# Altium footprint library con-wago255.PCBLIB: 101 footprints (part 6 of 7)
Each footprint in its own frame and in the unit in brackets; x right, y up, seen from the top. Pads: shape width x height; smd on the part's side, far side on the other; paste and mask are expansions set on the pad; w line width, h text height; cw(c..) or ccw(c..) is an arc to the next point about the centre after c.
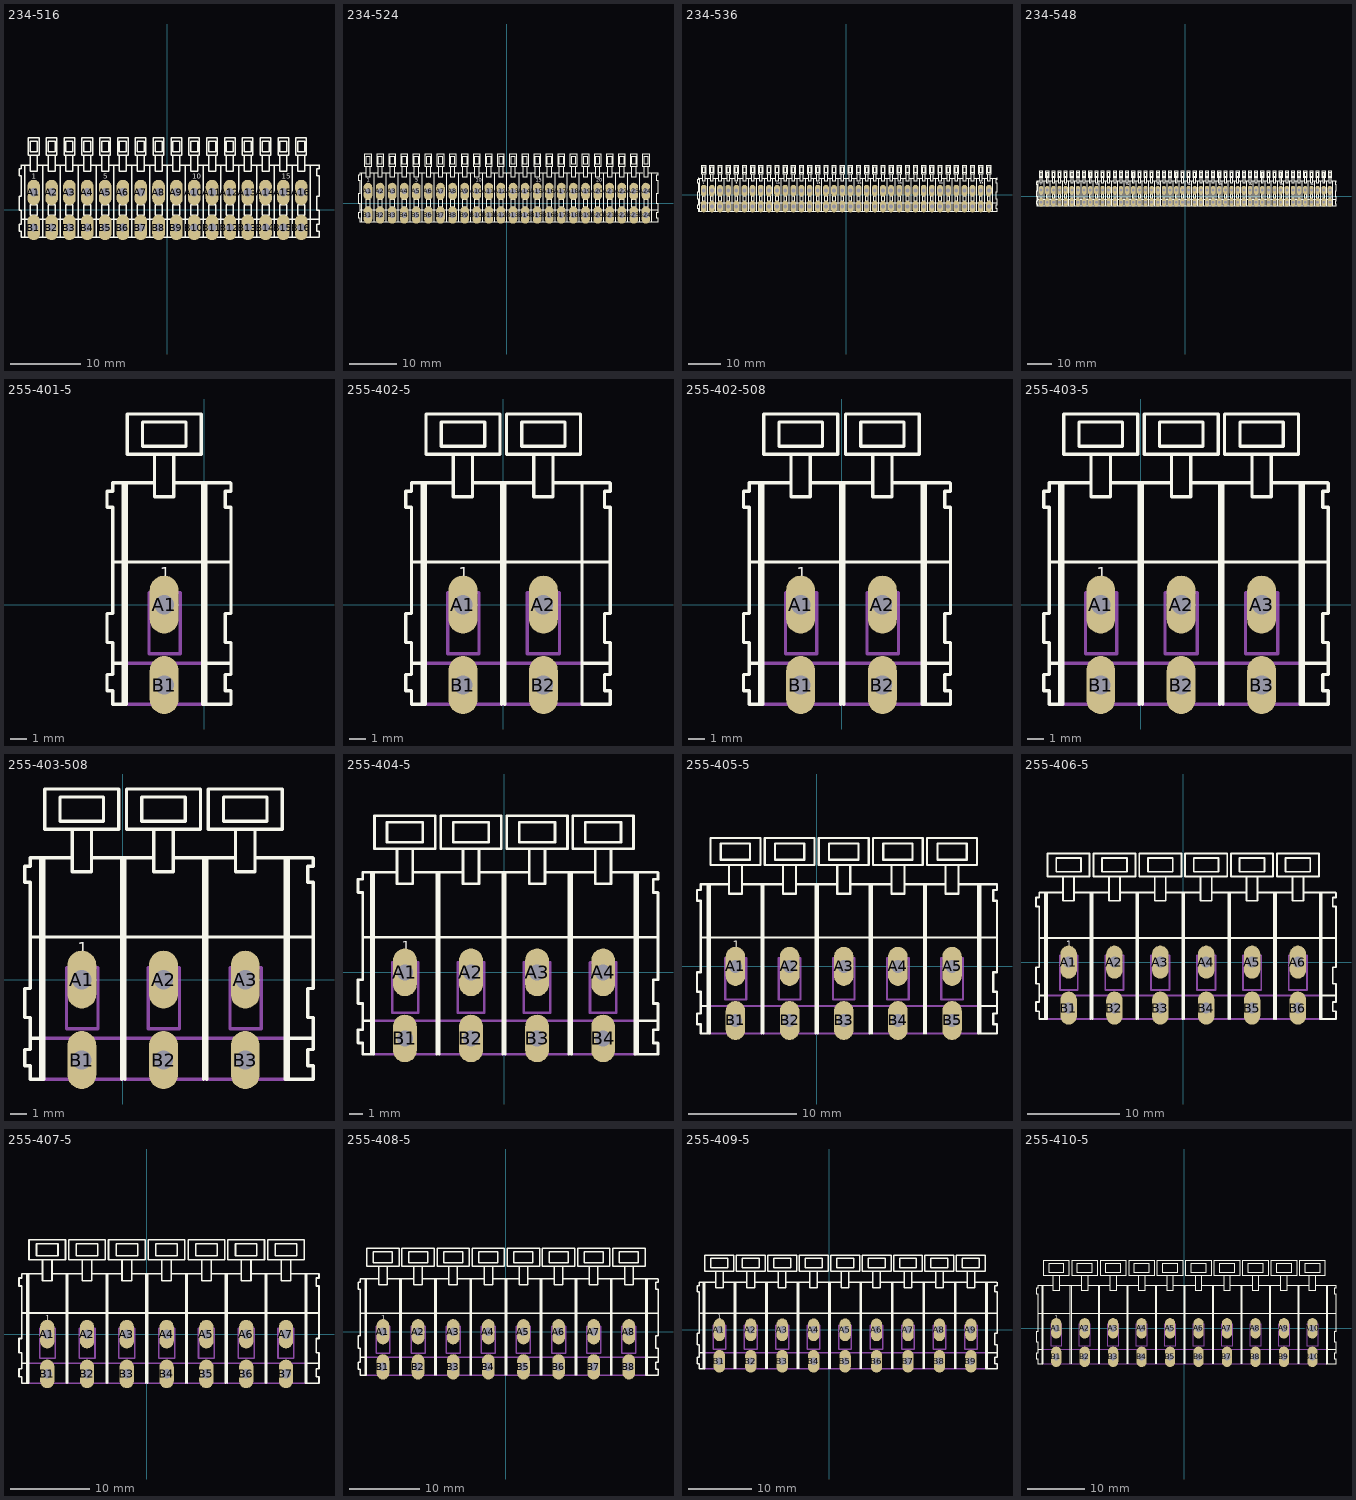
[diagram p5: the footprints below, top view; thin cyan lines are the x and y axes]

## 234-516 [mil]
pads (32):
  oval 70.86x141.72 hole 47.24: A1(-750,98.43) A2(-650,98.43) A3(-550,98.43) A4(-450,98.43) A5(-350,98.43) A6(-250,98.43) A7(-150,98.43) A8(-50,98.43) A9(50,98.43) A10(150,98.43) A11(250,98.43) A12(350,98.43) A13(450,98.43) A14(550,98.43) A15(650,98.43) A16(750,98.43) B1(-750,-98.43) B2(-650,-98.43) B3(-550,-98.43) B4(-450,-98.43) B5(-350,-98.43) B6(-250,-98.43) B7(-150,-98.43) B8(-50,-98.43) B9(50,-98.43) B10(150,-98.43) B11(250,-98.43) B12(350,-98.43) B13(450,-98.43) B14(550,-98.43) B15(650,-98.43) B16(750,-98.43)
Top Overlay:
  drawing of 337 lines, arcs and shapes, not listed
  text "1" at -759.84,164.17 h49.6
  text "5" at -359.84,164.17 h49.6
  text "10" at 140.16,164.17 h49.6
  text "15" at 640.16,164.17 h49.6

## 234-524 [mil]
pads (48):
  oval 70.86x141.72 hole 47.24: A1(-1150,98.43) A2(-1050,98.43) A3(-950,98.43) A4(-850,98.43) A5(-750,98.43) A6(-650,98.43) A7(-550,98.43) A8(-450,98.43) A9(-350,98.43) A10(-250,98.43) A11(-150,98.43) A12(-50,98.43) A13(50,98.43) A14(150,98.43) A15(250,98.43) A16(350,98.43) A17(450,98.43) A18(550,98.43) A19(650,98.43) A20(750,98.43) A21(850,98.43) A22(950,98.43) A23(1050,98.43) A24(1150,98.43) B1(-1150,-98.43) B2(-1050,-98.43) B3(-950,-98.43) B4(-850,-98.43) B5(-750,-98.43) B6(-650,-98.43) B7(-550,-98.43) B8(-450,-98.43) B9(-350,-98.43) B10(-250,-98.43) B11(-150,-98.43) B12(-50,-98.43) B13(50,-98.43) B14(150,-98.43) B15(250,-98.43) B16(350,-98.43) B17(450,-98.43) B18(550,-98.43) B19(650,-98.43) B20(750,-98.43) B21(850,-98.43) B22(950,-98.43) B23(1050,-98.43) B24(1150,-98.43)
Top Overlay:
  drawing of 489 lines, arcs and shapes, not listed
  text "1" at -1159.84,164.17 h49.6
  text "5" at -759.84,164.17 h49.6
  text "10" at -259.84,164.17 h49.6
  text "15" at 240.16,164.17 h49.6
  text "20" at 740.16,164.17 h49.6

## 234-536 [mil]
pads (72):
  oval 70.86x141.72 hole 47.24: A1(-1750,48.43) A2(-1650,48.43) A3(-1550,48.43) A4(-1450,48.43) A5(-1350,48.43) A6(-1250,48.43) A7(-1150,48.43) A8(-1050,48.43) A9(-950,48.43) A10(-850,48.43) A11(-750,48.43) A12(-650,48.43) A13(-550,48.43) A14(-450,48.43) A15(-350,48.43) A16(-250,48.43) A17(-150,48.43) A18(-50,48.43) A19(50,48.43) A20(150,48.43) A21(250,48.43) A22(350,48.43) A23(450,48.43) A24(550,48.43) A25(650,48.43) A26(750,48.43) A27(850,48.43) A28(950,48.43) A29(1050,48.43) A30(1150,48.43) A31(1250,48.43) A32(1350,48.43) A33(1450,48.43) A34(1550,48.43) A35(1650,48.43) A36(1750,48.43) B1(-1750,-148.43) B2(-1650,-148.43) B3(-1550,-148.43) B4(-1450,-148.43) B5(-1350,-148.43) B6(-1250,-148.43) B7(-1150,-148.43) B8(-1050,-148.43) B9(-950,-148.43) B10(-850,-148.43) B11(-750,-148.43) B12(-650,-148.43) B13(-550,-148.43) B14(-450,-148.43) B15(-350,-148.43) B16(-250,-148.43) B17(-150,-148.43) B18(-50,-148.43) B19(50,-148.43) B20(150,-148.43) B21(250,-148.43) B22(350,-148.43) B23(450,-148.43) B24(550,-148.43) B25(650,-148.43) B26(750,-148.43) B27(850,-148.43) B28(950,-148.43) B29(1050,-148.43) B30(1150,-148.43) B31(1250,-148.43) B32(1350,-148.43) B33(1450,-148.43) B34(1550,-148.43) B35(1650,-148.43) B36(1750,-148.43)
Top Overlay:
  drawing of 717 lines, arcs and shapes, not listed
  text "1" at -1759.84,114.17 h49.6
  text "5" at -1359.84,114.17 h49.6
  text "10" at -859.84,114.17 h49.6
  text "15" at -359.84,114.17 h49.6
  text "20" at 140.16,114.17 h49.6
  text "25" at 640.16,114.17 h49.6
  text "30" at 1140.16,114.17 h49.6
  text "35" at 1640.16,114.17 h49.6

## 234-548 [mil]
pads (96):
  oval 70.86x141.72 hole 47.24: A1(-2350,98.43) A2(-2250,98.43) A3(-2150,98.43) A4(-2050,98.43) A5(-1950,98.43) A6(-1850,98.43) A7(-1750,98.43) A8(-1650,98.43) A9(-1550,98.43) A10(-1450,98.43) A11(-1350,98.43) A12(-1250,98.43) A13(-1150,98.43) A14(-1050,98.43) A15(-950,98.43) A16(-850,98.43) A17(-750,98.43) A18(-650,98.43) A19(-550,98.43) A20(-450,98.43) A21(-350,98.43) A22(-250,98.43) A23(-150,98.43) A24(-50,98.43) A25(50,98.43) A26(150,98.43) A27(250,98.43) A28(350,98.43) A29(450,98.43) A30(550,98.43) A31(650,98.43) A32(750,98.43) A33(850,98.43) A34(950,98.43) A35(1050,98.43) A36(1150,98.43) A37(1250,98.43) A38(1350,98.43) A39(1450,98.43) A40(1550,98.43) A41(1650,98.43) A42(1750,98.43) A43(1850,98.43) A44(1950,98.43) A45(2050,98.43) A46(2150,98.43) A47(2250,98.43) A48(2350,98.43) B1(-2350,-98.43) B2(-2250,-98.43) B3(-2150,-98.43) B4(-2050,-98.43) B5(-1950,-98.43) B6(-1850,-98.43) B7(-1750,-98.43) B8(-1650,-98.43) B9(-1550,-98.43) B10(-1450,-98.43) B11(-1350,-98.43) B12(-1250,-98.43) B13(-1150,-98.43) B14(-1050,-98.43) B15(-950,-98.43) B16(-850,-98.43) B17(-750,-98.43) B18(-650,-98.43) B19(-550,-98.43) B20(-450,-98.43) B21(-350,-98.43) B22(-250,-98.43) B23(-150,-98.43) B24(-50,-98.43) B25(50,-98.43) B26(150,-98.43) B27(250,-98.43) B28(350,-98.43) B29(450,-98.43) B30(550,-98.43) B31(650,-98.43) B32(750,-98.43) B33(850,-98.43) B34(950,-98.43) B35(1050,-98.43) B36(1150,-98.43) B37(1250,-98.43) B38(1350,-98.43) B39(1450,-98.43) B40(1550,-98.43) B41(1650,-98.43) B42(1750,-98.43) B43(1850,-98.43) B44(1950,-98.43) B45(2050,-98.43) B46(2150,-98.43) B47(2250,-98.43) B48(2350,-98.43)
Top Overlay:
  drawing of 945 lines, arcs and shapes, not listed
  text "1" at -2359.84,164.17 h49.6
  text "5" at -1959.84,164.17 h49.6
  text "10" at -1459.84,164.17 h49.6
  text "15" at -959.84,164.17 h49.6
  text "20" at -459.84,164.17 h49.6
  text "25" at 40.16,164.17 h49.6
  text "30" at 540.16,164.17 h49.6
  text "35" at 1040.16,164.17 h49.6
  text "40" at 1540.16,164.17 h49.6
  text "45" at 2040.16,164.17 h49.6

## 255-401-5 [mm]
pads (2):
  oval 1.8x3.6 hole 1.2: A1(-2.5,0) B1(-2.5,-5)
Top Overlay:
  lines w0.203: -5.7,-3.65 -5,-3.65 ; -5.65,2.65 -0.1,2.65 ; -5.05,7.55 -5.05,-6.2 ; -4.85,7.55 -4.85,-6.2 -5.05,-6.2 ; -3.125,7.575 -5.7,7.575 -5.7,7.05 -6.05,7.05 -6.05,6.05 -5.7,6.05 -5.7,-0.55 -6.05,-0.55 -6.05,-2.35 -5.7,-2.35 -5.7,-4.35 -6.05,-4.35 -6.05,-5.35 -5.7,-5.35 -5.7,-6.2 -5.05,-6.2 ; -1.875,7.575 1.625,7.575 ; -0.1,7.55 -0.1,2.65 ; -0.05,-3.65 1.65,-3.65 ; 0.1,-6.2 0.1,7.55 ; 1.6,2.65 -0.1,2.65 ; 1.65,7.55 1.65,7.05 1.3,7.05 1.3,6.05 1.65,6.05 1.65,-0.55 1.3,-0.55 1.3,-2.35 1.65,-2.35 1.65,-3.65 ; -3.1,9.35 -4.8,9.35 -4.8,11.85 -0.2,11.85 -0.2,9.35 -1.9,9.35 ; -3.1,9.35 -1.9,9.35 ; -3.1,9.35 -3.1,6.7 -1.9,6.7 -1.9,9.35 ; -0.1,2.65 -0.1,-6.2 1.65,-6.2 1.65,-5.35 1.3,-5.35 1.3,-4.35 1.65,-4.35 1.65,-3.65 ; -3.85,9.85 -3.85,11.35 -1.15,11.35 -1.15,9.85 -3.85,9.85
  text "1" at -2.75,1.35 h1.26
Mechanical 16:
  lines w0.203: -5,-3.65 -0.1,-3.65 ; -4.85,-6.2 -0.1,-6.2 ; -3.45,-3.05 -3.45,0.75 -1.5,0.75 -1.5,-3.05 -3.45,-3.05

## 255-402-5 [mm]
pads (4):
  oval 1.8x3.6 hole 1.2: A1(-2.5,0) A2(2.5,0) B1(-2.5,-5) B2(2.5,-5)
Top Overlay:
  lines w0.203: -5.7,-3.65 -5,-3.65 ; -5.65,2.65 -0.1,2.65 ; -5.05,7.55 -5.05,-6.2 ; -4.85,7.55 -4.85,-6.2 -5.05,-6.2 ; -3.125,7.575 -5.7,7.575 -5.7,7.05 -6.05,7.05 -6.05,6.05 -5.7,6.05 -5.7,-0.55 -6.05,-0.55 -6.05,-2.35 -5.7,-2.35 -5.7,-4.35 -6.05,-4.35 -6.05,-5.35 -5.7,-5.35 -5.7,-6.2 -5.05,-6.2 ; -1.825,7.575 1.875,7.575 ; -0.1,-6.2 -0.1,2.65 ; -0.1,7.55 -0.1,2.65 ; 0.1,-6.2 0.1,2.65 ; 0.1,7.55 0.1,2.65 ; 3.125,7.575 6.625,7.575 ; 4.9,7.55 4.9,2.65 ; 4.95,-3.65 6.65,-3.65 ; 6.6,2.65 4.9,2.65 ; 6.65,7.55 6.65,7.05 6.3,7.05 6.3,6.05 6.65,6.05 6.65,-0.55 6.3,-0.55 6.3,-2.35 6.65,-2.35 6.65,-3.65 ; -3.1,9.35 -4.8,9.35 -4.8,11.85 -0.2,11.85 -0.2,9.35 -1.9,9.35 ; -3.1,9.35 -1.9,9.35 ; -3.1,9.35 -3.1,6.7 -1.9,6.7 -1.9,9.35 ; 0.1,2.65 4.9,2.65 ; 1.9,9.35 0.2,9.35 0.2,11.85 4.8,11.85 4.8,9.35 3.1,9.35 ; 1.9,9.35 3.1,9.35 ; 1.9,9.35 1.9,6.7 3.1,6.7 3.1,9.35 ; 4.9,2.65 4.9,-6.2 6.65,-6.2 6.65,-5.35 6.3,-5.35 6.3,-4.35 6.65,-4.35 6.65,-3.65 ; -3.85,9.85 -3.85,11.35 -1.15,11.35 -1.15,9.85 -3.85,9.85 ; 1.15,9.85 1.15,11.35 3.85,11.35 3.85,9.85 1.15,9.85
  text "1" at -2.75,1.35 h1.26
Mechanical 16:
  lines w0.203: -5,-3.65 4.9,-3.65 ; -4.85,-6.2 4.9,-6.2 ; -3.45,-3.05 -3.45,0.75 -1.5,0.75 -1.5,-3.05 -3.45,-3.05 ; 1.5,-3.05 1.5,0.75 3.5,0.75 3.5,-3.05 1.5,-3.05

## 255-402-508 [mm]
pads (4):
  oval 1.8x3.6 hole 1.2: A1(-2.54,0) A2(2.54,0) B1(-2.54,-5) B2(2.54,-5)
Top Overlay:
  lines w0.203: -5.74,-3.65 -5.04,-3.65 ; -5.69,2.65 -0.06,2.65 ; -5.09,7.55 -5.09,-6.2 ; -4.89,7.55 -4.89,-6.2 -5.09,-6.2 ; -3.165,7.575 -5.74,7.575 -5.74,7.05 -6.09,7.05 -6.09,6.05 -5.74,6.05 -5.74,-0.55 -6.09,-0.55 -6.09,-2.35 -5.74,-2.35 -5.74,-4.35 -6.09,-4.35 -6.09,-5.35 -5.74,-5.35 -5.74,-6.2 -5.09,-6.2 ; -1.915,7.575 1.919,7.575 ; -0.06,-6.2 -0.06,2.65 ; -0.06,7.55 -0.06,2.65 ; 0.14,-6.2 0.14,7.55 ; 3.165,7.575 6.745,7.575 ; 5.02,7.55 5.02,2.65 ; 5.07,-3.65 6.77,-3.65 ; 5.22,-6.2 5.22,7.55 ; 6.72,2.65 5.02,2.65 ; 6.77,7.55 6.77,7.05 6.42,7.05 6.42,6.05 6.77,6.05 6.77,-0.55 6.42,-0.55 6.42,-2.35 6.77,-2.35 6.77,-3.65 ; -3.14,9.35 -4.84,9.35 -4.84,11.85 -0.24,11.85 -0.24,9.35 -1.94,9.35 ; -3.14,9.35 -1.94,9.35 ; -3.14,9.35 -3.14,6.7 -1.94,6.7 -1.94,9.35 ; -0.06,2.65 5.02,2.65 ; 1.94,9.35 0.24,9.35 0.24,11.85 4.84,11.85 4.84,9.35 3.14,9.35 ; 1.94,9.35 3.14,9.35 ; 1.94,9.35 1.94,6.7 3.14,6.7 3.14,9.35 ; 5.02,2.65 5.02,-6.2 6.77,-6.2 6.77,-5.35 6.42,-5.35 6.42,-4.35 6.77,-4.35 6.77,-3.65 ; -3.89,9.85 -3.89,11.35 -1.19,11.35 -1.19,9.85 -3.89,9.85 ; 1.19,9.85 1.19,11.35 3.89,11.35 3.89,9.85 1.19,9.85
  text "1" at -2.79,1.35 h1.26
Mechanical 16:
  lines w0.203: -5.04,-3.65 5.02,-3.65 ; -4.89,-6.2 5.02,-6.2 ; -3.49,-3.05 -3.49,0.75 -1.54,0.75 -1.54,-3.05 -3.49,-3.05 ; 1.59,-3.05 1.59,0.75 3.54,0.75 3.54,-3.05 1.59,-3.05

## 255-403-5 [mm]
pads (6):
  oval 1.8x3.6 hole 1.2: A1(-2.5,0) A2(2.5,0) A3(7.5,0) B1(-2.5,-5) B2(2.5,-5) B3(7.5,-5)
Top Overlay:
  lines w0.203: -5.7,-3.65 -5,-3.65 ; -5.65,2.65 -0.1,2.65 ; -5.05,7.55 -5.05,-6.2 ; -4.85,7.55 -4.85,-6.2 -5.05,-6.2 ; -3.125,7.575 -5.7,7.575 -5.7,7.05 -6.05,7.05 -6.05,6.05 -5.7,6.05 -5.7,-0.55 -6.05,-0.55 -6.05,-2.35 -5.7,-2.35 -5.7,-4.35 -6.05,-4.35 -6.05,-5.35 -5.7,-5.35 -5.7,-6.2 -5.05,-6.2 ; -1.825,7.575 1.875,7.575 ; -0.1,-6.2 -0.1,2.65 ; -0.1,7.55 -0.1,2.65 ; 0.1,-6.2 0.1,2.65 ; 0.1,7.55 0.1,2.65 ; 3.125,7.575 6.875,7.575 ; 4.9,-6.2 4.9,2.65 ; 4.9,7.55 4.9,2.65 ; 5.1,-6.2 5.1,2.65 ; 5.1,7.55 5.1,2.65 ; 8.125,7.575 11.625,7.575 ; 9.9,7.55 9.9,2.65 ; 9.95,-3.65 11.65,-3.65 ; 10.1,7.55 10.1,2.65 ; 11.6,2.65 10.1,2.65 ; 11.65,7.55 11.65,7.05 11.3,7.05 11.3,6.05 11.65,6.05 11.65,-0.55 11.3,-0.55 11.3,-2.35 11.65,-2.35 11.65,-3.65 ; -3.1,9.35 -4.8,9.35 -4.8,11.85 -0.2,11.85 -0.2,9.35 -1.9,9.35 ; -3.1,9.35 -1.9,9.35 ; -3.1,9.35 -3.1,6.7 -1.9,6.7 -1.9,9.35 ; 0.1,2.65 4.9,2.65 ; 1.9,9.35 0.2,9.35 0.2,11.85 4.8,11.85 4.8,9.35 3.1,9.35 ; 1.9,9.35 3.1,9.35 ; 1.9,9.35 1.9,6.7 3.1,6.7 3.1,9.35 ; 4.9,2.65 5.1,2.65 ; 5.1,2.65 9.9,2.65 ; 6.9,9.35 5.2,9.35 5.2,11.85 9.8,11.85 9.8,9.35 8.1,9.35 ; 6.9,9.35 8.1,9.35 ; 6.9,9.35 6.9,6.7 8.1,6.7 8.1,9.35 ; 9.9,2.65 10.1,2.65 ; 9.9,2.65 9.9,-6.2 10.1,-6.2 ; 10.1,-6.2 11.65,-6.2 11.65,-5.35 11.3,-5.35 11.3,-4.35 11.65,-4.35 11.65,-3.65 ; 10.1,-6.2 10.1,2.65 ; -3.85,9.85 -3.85,11.35 -1.15,11.35 -1.15,9.85 -3.85,9.85 ; 1.15,9.85 1.15,11.35 3.85,11.35 3.85,9.85 1.15,9.85 ; 6.15,9.85 6.15,11.35 8.85,11.35 8.85,9.85 6.15,9.85
  text "1" at -2.75,1.35 h1.26
Mechanical 16:
  lines w0.203: -5,-3.65 9.9,-3.65 ; -4.85,-6.2 9.9,-6.2 ; -3.45,-3.05 -3.45,0.75 -1.5,0.75 -1.5,-3.05 -3.45,-3.05 ; 1.5,-3.05 1.5,0.75 3.5,0.75 3.5,-3.05 1.5,-3.05 ; 6.5,-3.05 6.5,0.75 8.5,0.75 8.5,-3.05 6.5,-3.05

## 255-403-508 [mm]
pads (6):
  oval 1.8x3.6 hole 1.2: A1(-2.54,0) A2(2.54,0) A3(7.62,0) B1(-2.54,-5) B2(2.54,-5) B3(7.62,-5)
Top Overlay:
  lines w0.203: -5.74,-3.65 -5.04,-3.65 ; -5.69,2.65 -0.61,2.65 ; -5.09,7.55 -5.09,-6.2 ; -4.89,7.55 -4.89,-6.2 -5.09,-6.2 ; -3.165,7.575 -5.74,7.575 -5.74,7.05 -6.09,7.05 -6.09,6.05 -5.74,6.05 -5.74,-0.55 -6.09,-0.55 -6.09,-2.35 -5.74,-2.35 -5.74,-4.35 -6.09,-4.35 -6.09,-5.35 -5.74,-5.35 -5.74,-6.2 -5.09,-6.2 ; -1.915,7.575 1.919,7.575 ; -0.06,-6.2 -0.06,2.65 ; -0.06,7.55 -0.06,2.65 ; 0.14,-6.2 0.14,7.55 ; 3.165,7.575 7.01,7.575 ; 5.02,-6.2 5.02,2.65 ; 5.02,7.55 5.02,2.65 ; 5.22,-6.2 5.22,7.55 ; 8.23,7.575 11.825,7.575 ; 10.1,7.55 10.1,2.65 ; 10.15,-3.65 11.85,-3.65 ; 10.3,-6.2 10.3,7.55 ; 11.8,2.65 10.1,2.65 ; 11.85,7.55 11.85,7.05 11.5,7.05 11.5,6.05 11.85,6.05 11.85,-0.55 11.5,-0.55 11.5,-2.35 11.85,-2.35 11.85,-3.65 ; -3.14,9.35 -4.84,9.35 -4.84,11.85 -0.24,11.85 -0.24,9.35 -1.94,9.35 ; -3.14,9.35 -1.94,9.35 ; -3.14,9.35 -3.14,6.7 -1.94,6.7 -1.94,9.35 ; -0.61,2.65 -0.06,2.65 ; -0.61,2.65 5.02,2.65 ; -0.06,2.65 5.02,2.65 ; 1.94,9.35 0.24,9.35 0.24,11.85 4.84,11.85 4.84,9.35 3.14,9.35 ; 1.94,9.35 3.14,9.35 ; 1.94,9.35 1.94,6.7 3.14,6.7 3.14,9.35 ; 5.02,2.65 10.1,2.65 ; 7.02,9.35 5.32,9.35 5.32,11.85 9.92,11.85 9.92,9.35 8.22,9.35 ; 7.02,9.35 8.22,9.35 ; 7.02,9.35 7.02,6.7 8.22,6.7 8.22,9.35 ; 10.1,2.65 10.1,-6.2 11.85,-6.2 11.85,-5.35 11.5,-5.35 11.5,-4.35 11.85,-4.35 11.85,-3.65 ; -3.89,9.85 -3.89,11.35 -1.19,11.35 -1.19,9.85 -3.89,9.85 ; 1.19,9.85 1.19,11.35 3.89,11.35 3.89,9.85 1.19,9.85 ; 6.27,9.85 6.27,11.35 8.97,11.35 8.97,9.85 6.27,9.85
  text "1" at -2.79,1.35 h1.26
Mechanical 16:
  lines w0.203: -5.04,-3.65 10.1,-3.65 ; -4.89,-6.2 10.1,-6.2 ; -3.49,-3.05 -3.49,0.75 -1.54,0.75 -1.54,-3.05 -3.49,-3.05 ; 1.59,-3.05 1.59,0.75 3.54,0.75 3.54,-3.05 1.59,-3.05 ; 6.67,-3.05 6.67,0.75 8.62,0.75 8.62,-3.05 6.67,-3.05

## 255-404-5 [mm]
pads (8):
  oval 1.8x3.6 hole 1.2: A1(-7.5,0) A2(-2.5,0) A3(2.5,0) A4(7.5,0) B1(-7.5,-5) B2(-2.5,-5) B3(2.5,-5) B4(7.5,-5)
Top Overlay:
  lines w0.203: -10.7,-3.65 -10,-3.65 ; -10.65,2.65 -5.1,2.65 ; -10.05,7.55 -10.05,-6.2 ; -9.85,7.55 -9.85,-6.2 -10.05,-6.2 ; -8.125,7.575 -10.7,7.575 -10.7,7.05 -11.05,7.05 -11.05,6.05 -10.7,6.05 -10.7,-0.55 -11.05,-0.55 -11.05,-2.35 -10.7,-2.35 -10.7,-4.35 -11.05,-4.35 -11.05,-5.35 -10.7,-5.35 -10.7,-6.2 -10.05,-6.2 ; -6.825,7.575 -3.125,7.575 ; -5.1,-6.2 -5.1,2.65 ; -5.1,7.55 -5.1,2.65 ; -4.9,-6.2 -4.9,2.65 ; -4.9,7.55 -4.9,2.65 ; -1.875,7.575 1.875,7.575 ; -0.1,-6.2 -0.1,2.65 ; -0.1,7.55 -0.1,2.65 ; 0.1,-6.2 0.1,2.65 ; 0.1,7.55 0.1,2.65 ; 3.125,7.575 6.875,7.575 ; 4.9,-6.2 4.9,2.65 ; 4.9,7.55 4.9,2.65 ; 5.1,-6.2 5.1,2.65 ; 5.1,7.55 5.1,2.65 ; 8.125,7.575 11.625,7.575 ; 9.9,7.55 9.9,2.65 ; 9.95,-3.65 11.65,-3.65 ; 10.1,7.55 10.1,2.65 ; 11.6,2.65 10.1,2.65 ; 11.65,7.55 11.65,7.05 11.3,7.05 11.3,6.05 11.65,6.05 11.65,-0.55 11.3,-0.55 11.3,-2.35 11.65,-2.35 11.65,-3.65 ; -8.1,9.35 -9.8,9.35 -9.8,11.85 -5.2,11.85 -5.2,9.35 -6.9,9.35 ; -8.1,9.35 -6.9,9.35 ; -8.1,9.35 -8.1,6.7 -6.9,6.7 -6.9,9.35 ; -4.9,2.65 -0.1,2.65 ; -3.1,9.35 -4.8,9.35 -4.8,11.85 -0.2,11.85 -0.2,9.35 -1.9,9.35 ; -3.1,9.35 -1.9,9.35 ; -3.1,9.35 -3.1,6.7 -1.9,6.7 -1.9,9.35 ; -0.1,2.65 0.1,2.65 ; 0.1,2.65 4.9,2.65 ; 1.9,9.35 0.2,9.35 0.2,11.85 4.8,11.85 4.8,9.35 3.1,9.35 ; 1.9,9.35 3.1,9.35 ; 1.9,9.35 1.9,6.7 3.1,6.7 3.1,9.35 ; 4.9,2.65 9.9,2.65 ; 4.9,2.65 5.1,2.65 ; 6.9,9.35 5.2,9.35 5.2,11.85 9.8,11.85 9.8,9.35 8.1,9.35 ; 6.9,9.35 8.1,9.35 ; 6.9,9.35 6.9,6.7 8.1,6.7 8.1,9.35 ; 9.9,2.65 10.1,2.65 ; 9.9,2.65 9.9,-6.2 10.1,-6.2 ; 10.1,-6.2 11.65,-6.2 11.65,-5.35 11.3,-5.35 11.3,-4.35 11.65,-4.35 11.65,-3.65 ; 10.1,-6.2 10.1,2.65 ; -8.85,9.85 -8.85,11.35 -6.15,11.35 -6.15,9.85 -8.85,9.85 ; -3.85,9.85 -3.85,11.35 -1.15,11.35 -1.15,9.85 -3.85,9.85 ; 1.15,9.85 1.15,11.35 3.85,11.35 3.85,9.85 1.15,9.85 ; 6.15,9.85 6.15,11.35 8.85,11.35 8.85,9.85 6.15,9.85
  text "1" at -7.75,1.35 h1.26
Mechanical 16:
  lines w0.203: -10,-3.65 9.9,-3.65 ; -9.85,-6.2 9.9,-6.2 ; -8.45,-3.05 -8.45,0.75 -6.5,0.75 -6.5,-3.05 -8.45,-3.05 ; -3.5,-3.05 -3.5,0.75 -1.5,0.75 -1.5,-3.05 -3.5,-3.05 ; 1.5,-3.05 1.5,0.75 3.5,0.75 3.5,-3.05 1.5,-3.05 ; 6.5,-3.05 6.5,0.75 8.5,0.75 8.5,-3.05 6.5,-3.05

## 255-405-5 [mm]
pads (10):
  oval 1.8x3.6 hole 1.2: A1(-7.5,0) A2(-2.5,0) A3(2.5,0) A4(7.5,0) A5(12.5,0) B1(-7.5,-5) B2(-2.5,-5) B3(2.5,-5) B4(7.5,-5) B5(12.5,-5)
Top Overlay:
  lines w0.203: -10.7,-3.65 -10,-3.65 ; -10.65,2.65 -5.1,2.65 ; -10.05,7.55 -10.05,-6.2 ; -9.85,7.55 -9.85,-6.2 -10.05,-6.2 ; -8.125,7.575 -10.7,7.575 -10.7,7.05 -11.05,7.05 -11.05,6.05 -10.7,6.05 -10.7,-0.55 -11.05,-0.55 -11.05,-2.35 -10.7,-2.35 -10.7,-4.35 -11.05,-4.35 -11.05,-5.35 -10.7,-5.35 -10.7,-6.2 -10.05,-6.2 ; -6.825,7.575 -3.125,7.575 ; -5.1,-6.2 -5.1,2.65 ; -5.1,7.55 -5.1,2.65 ; -4.9,-6.2 -4.9,2.65 ; -4.9,7.55 -4.9,2.65 ; -1.875,7.575 1.875,7.575 ; -0.1,-6.2 -0.1,2.65 ; -0.1,7.55 -0.1,2.65 ; 0.1,-6.2 0.1,2.65 ; 0.1,7.55 0.1,2.65 ; 3.125,7.575 6.875,7.575 ; 4.9,-6.2 4.9,2.65 ; 4.9,7.55 4.9,2.65 ; 5.1,-6.2 5.1,2.65 ; 5.1,7.55 5.1,2.65 ; 8.125,7.575 11.875,7.575 ; 9.9,-6.2 9.9,2.65 ; 9.9,7.55 9.9,2.65 ; 10.1,-6.2 10.1,2.65 ; 10.1,7.55 10.1,2.65 ; 13.125,7.575 16.625,7.575 ; 14.9,7.55 14.9,2.65 ; 14.95,-3.65 16.65,-3.65 ; 15.1,7.55 15.1,2.65 ; 16.6,2.65 15.1,2.65 ; 16.65,7.55 16.65,7.05 16.3,7.05 16.3,6.05 16.65,6.05 16.65,-0.55 16.3,-0.55 16.3,-2.35 16.65,-2.35 16.65,-3.65 ; -8.1,9.35 -9.8,9.35 -9.8,11.85 -5.2,11.85 -5.2,9.35 -6.9,9.35 ; -8.1,9.35 -6.9,9.35 ; -8.1,9.35 -8.1,6.7 -6.9,6.7 -6.9,9.35 ; -4.9,2.65 -0.1,2.65 ; -3.1,9.35 -4.8,9.35 -4.8,11.85 -0.2,11.85 -0.2,9.35 -1.9,9.35 ; -3.1,9.35 -1.9,9.35 ; -3.1,9.35 -3.1,6.7 -1.9,6.7 -1.9,9.35 ; -0.1,2.65 0.1,2.65 ; 0.1,2.65 4.9,2.65 ; 1.9,9.35 0.2,9.35 0.2,11.85 4.8,11.85 4.8,9.35 3.1,9.35 ; 1.9,9.35 3.1,9.35 ; 1.9,9.35 1.9,6.7 3.1,6.7 3.1,9.35 ; 4.9,2.65 14.9,2.65 ; 4.9,2.65 5.1,2.65 ; 5.1,2.65 9.9,2.65 ; 6.9,9.35 5.2,9.35 5.2,11.85 9.8,11.85 9.8,9.35 8.1,9.35 ; 6.9,9.35 8.1,9.35 ; 6.9,9.35 6.9,6.7 8.1,6.7 8.1,9.35 ; 9.9,2.65 10.1,2.65 ; 11.9,9.35 10.2,9.35 10.2,11.85 14.8,11.85 14.8,9.35 13.1,9.35 ; 11.9,9.35 13.1,9.35 ; 11.9,9.35 11.9,6.7 13.1,6.7 13.1,9.35 ; 14.9,2.65 15.1,2.65 ; 14.9,2.65 14.9,-6.2 15.1,-6.2 ; 15.1,-6.2 16.65,-6.2 16.65,-5.35 16.3,-5.35 16.3,-4.35 16.65,-4.35 16.65,-3.65 ; 15.1,-6.2 15.1,2.65 ; -8.85,9.85 -8.85,11.35 -6.15,11.35 -6.15,9.85 -8.85,9.85 ; -3.85,9.85 -3.85,11.35 -1.15,11.35 -1.15,9.85 -3.85,9.85 ; 1.15,9.85 1.15,11.35 3.85,11.35 3.85,9.85 1.15,9.85 ; 6.15,9.85 6.15,11.35 8.85,11.35 8.85,9.85 6.15,9.85 ; 11.15,9.85 11.15,11.35 13.85,11.35 13.85,9.85 11.15,9.85
  text "1" at -7.75,1.35 h1.26
Mechanical 16:
  lines w0.203: -10,-3.65 14.9,-3.65 ; -9.85,-6.2 14.9,-6.2 ; -8.45,-3.05 -8.45,0.75 -6.5,0.75 -6.5,-3.05 -8.45,-3.05 ; -3.5,-3.05 -3.5,0.75 -1.5,0.75 -1.5,-3.05 -3.5,-3.05 ; 1.5,-3.05 1.5,0.75 3.5,0.75 3.5,-3.05 1.5,-3.05 ; 6.5,-3.05 6.5,0.75 8.5,0.75 8.5,-3.05 6.5,-3.05 ; 11.5,-3.05 11.5,0.75 13.5,0.75 13.5,-3.05 11.5,-3.05

## 255-406-5 [mm]
pads (12):
  oval 1.8x3.6 hole 1.2: A1(-12.5,0) A2(-7.5,0) A3(-2.5,0) A4(2.5,0) A5(7.5,0) A6(12.5,0) B1(-12.5,-5) B2(-7.5,-5) B3(-2.5,-5) B4(2.5,-5) B5(7.5,-5) B6(12.5,-5)
Top Overlay:
  drawing of 156 lines, arcs and shapes, not listed
  text "1" at -12.75,1.35 h1.26
Mechanical 16:
  lines w0.203: -15,-3.65 14.9,-3.65 ; -14.85,-6.2 14.9,-6.2 ; -13.45,-3.05 -13.45,0.75 -11.5,0.75 -11.5,-3.05 -13.45,-3.05 ; -8.5,-3.05 -8.5,0.75 -6.5,0.75 -6.5,-3.05 -8.5,-3.05 ; -3.5,-3.05 -3.5,0.75 -1.5,0.75 -1.5,-3.05 -3.5,-3.05 ; 1.5,-3.05 1.5,0.75 3.5,0.75 3.5,-3.05 1.5,-3.05 ; 6.5,-3.05 6.5,0.75 8.5,0.75 8.5,-3.05 6.5,-3.05 ; 11.5,-3.05 11.5,0.75 13.5,0.75 13.5,-3.05 11.5,-3.05

## 255-407-5 [mm]
pads (14):
  oval 1.8x3.6 hole 1.2: A1(-12.5,0) A2(-7.5,0) A3(-2.5,0) A4(2.5,0) A5(7.5,0) A6(12.5,0) A7(17.5,0) B1(-12.5,-5) B2(-7.5,-5) B3(-2.5,-5) B4(2.5,-5) B5(7.5,-5) B6(12.5,-5) B7(17.5,-5)
Top Overlay:
  drawing of 176 lines, arcs and shapes, not listed
  text "1" at -12.75,1.35 h1.26
Mechanical 16:
  lines w0.203: -15,-3.65 19.9,-3.65 ; -14.85,-6.2 19.9,-6.2 ; -13.45,-3.05 -13.45,0.75 -11.5,0.75 -11.5,-3.05 -13.45,-3.05 ; -8.5,-3.05 -8.5,0.75 -6.5,0.75 -6.5,-3.05 -8.5,-3.05 ; -3.5,-3.05 -3.5,0.75 -1.5,0.75 -1.5,-3.05 -3.5,-3.05 ; 1.5,-3.05 1.5,0.75 3.5,0.75 3.5,-3.05 1.5,-3.05 ; 6.5,-3.05 6.5,0.75 8.5,0.75 8.5,-3.05 6.5,-3.05 ; 11.5,-3.05 11.5,0.75 13.5,0.75 13.5,-3.05 11.5,-3.05 ; 16.5,-3.05 16.5,0.75 18.5,0.75 18.5,-3.05 16.5,-3.05

## 255-408-5 [mm]
pads (16):
  oval 1.8x3.6 hole 1.2: A1(-17.5,0) A2(-12.5,0) A3(-7.5,0) A4(-2.5,0) A5(2.5,0) A6(7.5,0) A7(12.5,0) A8(17.5,0) B1(-17.5,-5) B2(-12.5,-5) B3(-7.5,-5) B4(-2.5,-5) B5(2.5,-5) B6(7.5,-5) B7(12.5,-5) B8(17.5,-5)
Top Overlay:
  drawing of 196 lines, arcs and shapes, not listed
  text "1" at -17.75,1.35 h1.26
Mechanical 16:
  lines w0.203: -20,-3.65 19.9,-3.65 ; -19.85,-6.2 19.9,-6.2 ; -18.45,-3.05 -18.45,0.75 -16.5,0.75 -16.5,-3.05 -18.45,-3.05 ; -13.5,-3.05 -13.5,0.75 -11.5,0.75 -11.5,-3.05 -13.5,-3.05 ; -8.5,-3.05 -8.5,0.75 -6.5,0.75 -6.5,-3.05 -8.5,-3.05 ; -3.5,-3.05 -3.5,0.75 -1.5,0.75 -1.5,-3.05 -3.5,-3.05 ; 1.5,-3.05 1.5,0.75 3.5,0.75 3.5,-3.05 1.5,-3.05 ; 6.5,-3.05 6.5,0.75 8.5,0.75 8.5,-3.05 6.5,-3.05 ; 11.5,-3.05 11.5,0.75 13.5,0.75 13.5,-3.05 11.5,-3.05 ; 16.5,-3.05 16.5,0.75 18.5,0.75 18.5,-3.05 16.5,-3.05

## 255-409-5 [mm]
pads (18):
  oval 1.8x3.6 hole 1.2: A1(-17.5,0) A2(-12.5,0) A3(-7.5,0) A4(-2.5,0) A5(2.5,0) A6(7.5,0) A7(12.5,0) A8(17.5,0) A9(22.5,0) B1(-17.5,-5) B2(-12.5,-5) B3(-7.5,-5) B4(-2.5,-5) B5(2.5,-5) B6(7.5,-5) B7(12.5,-5) B8(17.5,-5) B9(22.5,-5)
Top Overlay:
  drawing of 216 lines, arcs and shapes, not listed
  text "1" at -17.75,1.35 h1.26
Mechanical 16:
  lines w0.203: -20,-3.65 24.9,-3.65 ; -19.85,-6.2 24.9,-6.2 ; -18.45,-3.05 -18.45,0.75 -16.5,0.75 -16.5,-3.05 -18.45,-3.05 ; -13.5,-3.05 -13.5,0.75 -11.5,0.75 -11.5,-3.05 -13.5,-3.05 ; -8.5,-3.05 -8.5,0.75 -6.5,0.75 -6.5,-3.05 -8.5,-3.05 ; -3.5,-3.05 -3.5,0.75 -1.5,0.75 -1.5,-3.05 -3.5,-3.05 ; 1.5,-3.05 1.5,0.75 3.5,0.75 3.5,-3.05 1.5,-3.05 ; 6.5,-3.05 6.5,0.75 8.5,0.75 8.5,-3.05 6.5,-3.05 ; 11.5,-3.05 11.5,0.75 13.5,0.75 13.5,-3.05 11.5,-3.05 ; 16.5,-3.05 16.5,0.75 18.5,0.75 18.5,-3.05 16.5,-3.05 ; 21.5,-3.05 21.5,0.75 23.5,0.75 23.5,-3.05 21.5,-3.05

## 255-410-5 [mm]
pads (20):
  oval 1.8x3.6 hole 1.2: A1(-22.5,0) A2(-17.5,0) A3(-12.5,0) A4(-7.5,0) A5(-2.5,0) A6(2.5,0) A7(7.5,0) A8(12.5,0) A9(17.5,0) A10(22.5,0) B1(-22.5,-5) B2(-17.5,-5) B3(-12.5,-5) B4(-7.5,-5) B5(-2.5,-5) B6(2.5,-5) B7(7.5,-5) B8(12.5,-5) B9(17.5,-5) B10(22.5,-5)
Top Overlay:
  drawing of 236 lines, arcs and shapes, not listed
  text "1" at -22.75,1.35 h1.26
Mechanical 16:
  lines w0.203: -25,-3.65 24.9,-3.65 ; -24.85,-6.2 24.9,-6.2 ; -23.45,-3.05 -23.45,0.75 -21.5,0.75 -21.5,-3.05 -23.45,-3.05 ; -18.5,-3.05 -18.5,0.75 -16.5,0.75 -16.5,-3.05 -18.5,-3.05 ; -13.5,-3.05 -13.5,0.75 -11.5,0.75 -11.5,-3.05 -13.5,-3.05 ; -8.5,-3.05 -8.5,0.75 -6.5,0.75 -6.5,-3.05 -8.5,-3.05 ; -3.5,-3.05 -3.5,0.75 -1.5,0.75 -1.5,-3.05 -3.5,-3.05 ; 1.5,-3.05 1.5,0.75 3.5,0.75 3.5,-3.05 1.5,-3.05 ; 6.5,-3.05 6.5,0.75 8.5,0.75 8.5,-3.05 6.5,-3.05 ; 11.5,-3.05 11.5,0.75 13.5,0.75 13.5,-3.05 11.5,-3.05 ; 16.5,-3.05 16.5,0.75 18.5,0.75 18.5,-3.05 16.5,-3.05 ; 21.5,-3.05 21.5,0.75 23.5,0.75 23.5,-3.05 21.5,-3.05